# Altium schematic symbol library SMPSProject.SchLib: 155 symbols (part 1 of 2)
Pins are listed as number, name and electrical type; pins without a type are passive.

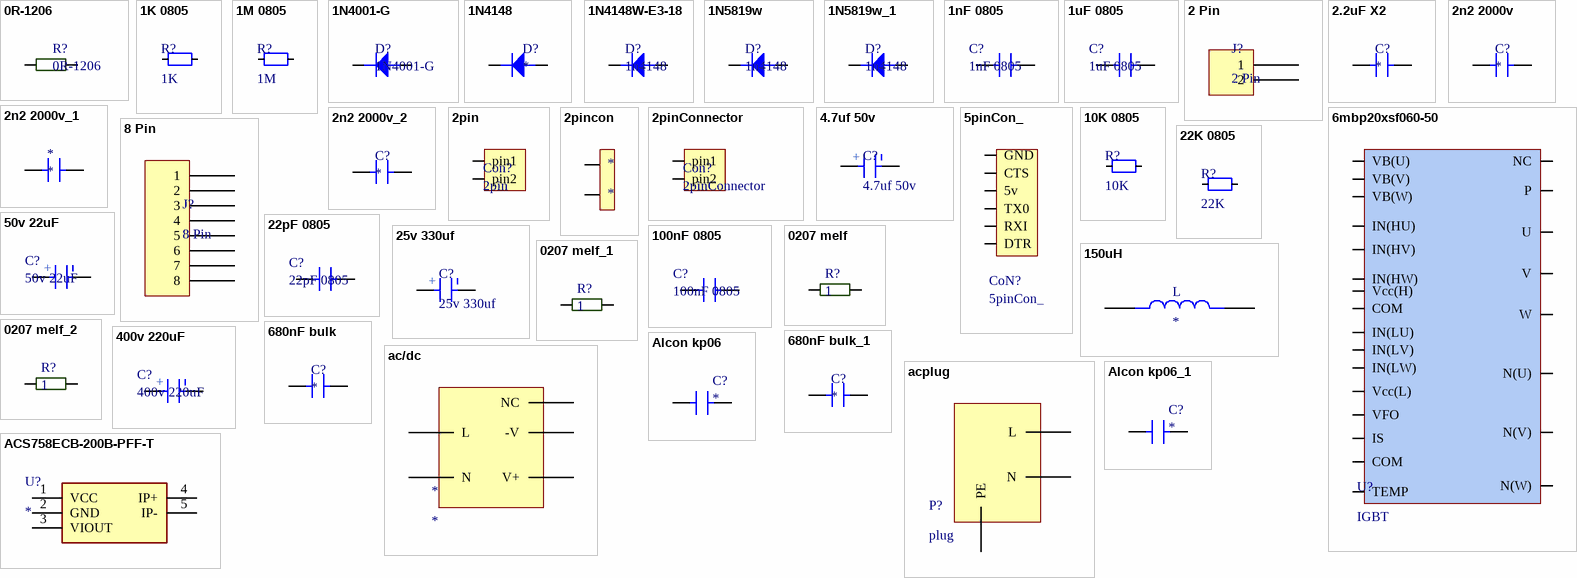
[diagram p0: symbols 0R-1206 to Alcon kp06_1]

## 0R-1206
designator R?
Res1206
footprint R-1206
pins: 1, 2

## 1K 0805
designator R?, comment 1K
footprint R-0805R (resistor 0805 reflow soldering)
pins: 1, 2

## 1M 0805
designator R?, comment 1M
footprint R-0805R (resistor 0805 reflow soldering)
pins: 1, 2

## 1N4001-G
designator D?
DIODE GEN PURP 50V 1A DO41; Manufacturer: Comchip; Supplier 1: Digi-Key; Manufacturer Part Number: 1N4001-G; RoHS: Yes; Stock 1: 80000; Pricing 1: 5000 = 0,01691, 10000 = 0,01470, 25000 = 0,01323, 50000 = 0,01176, 125000 = 0,00978 (USD); Mount: Through Hole; Package Quantity: 5000; Packaging: Tape and Reel; Average Rectified Current: 1A; Max Reverse Voltage (DC): 50V; ComponentLink1URL: http://www.comchiptech.com/admin/files/product/1N4001-G%20Thru.%201N4007-G%20RevB.pdf?src-supplier=Digi-Key; ComponentLink1Description: http://www.comchiptech.com/admin/files/product/1N4001-G%20Thru.%201N4007-G%20RevB.pdf?src-supplier=Digi-Key; Supplier Part Number 1: 641-1310-3-ND
footprint DO41 1N4001 MUR220
pins: A, K

## 1N4148
designator D?
DIODE FAST SWITCHING Single 150mA 75V SMT SOD323
footprint SOD123
pins: a, k

## 1N4148W-E3-18
designator D?, comment 1n4148
Diode Small Signal Switching 100V 0.15A 2-Pin SOD-123 T/R; Manufacturer: Vishay; Manufacturer Part Number: 1N4148W-E3-18; Recovery Time: 4ns; Max Power Dissipation: 350mW; Forward Current: 150mA; Max Surge Current: 2A; Forward Voltage: 1.2V; Max Reverse Leakage Current: 5uA; Element Configuration: Single; Max Reverse Voltage (DC): 75V; Peak Reverse Current: 100uA; Supplier 1: Allied Electronics; RoHS: Yes; Stock 1: 6838; Pricing 1: 1 = 0.03900, 25 = 0.03800, 100 = 0.03600, 250 = 0.03400, 500 = 0.03200, 1000 = 0.03100, 2500 = 0.02900 (USD); Mount: Surface Mount; Number of Pins: 2; Weight: 0.000363oz; Contact Plating: Tin; Min Operating Temperature: -55°C; Max Operating Temperature: 150°C; Packaging: Tape and Reel; Package Quantity: 10000; Average Rectified Current: 150mA; Reverse Recovery Time: 4ns; Power Dissipation: 350mW; Max Repetitive Reverse Voltage (Vrrm): 100V; Peak Non-Repetitive Surge Current: 2A; Length: 2.85mm; Height: 1.25mm; Width: 1.7mm; Radiation Hardening: No; Lead Free: Lead Free; ComponentLink1URL: https://datasheet.ciiva.com/29885/1n4148w-29885941.pdf?src-supplier=Avnet; ComponentLink1Description: https://datasheet.ciiva.com/29885/1n4148w-29885941.pdf?src-supplier=Avnet; ComponentLink2URL: https://datasheet.ciiva.com/29593/1n4148w-29593113.pdf?src-supplier=Digi-Key; ComponentLink2Description: https://datasheet.ciiva.com/29593/1n4148w-29593113.pdf?src-supplier=Digi-Key; ComponentLink3URL: https://datasheet.ciiva.com/29593/1n4148w-29593111.pdf?src-supplier=Digi-Key; ComponentLink3Description: https://datasheet.ciiva.com/29593/1n4148w-29593111.pdf?src-supplier=Digi-Key; ComponentLink4URL: https://datasheet.ciiva.com/29593/1n4148w-29593112.pdf?src-supplier=Digi-Key; ComponentLink4Description: https://datasheet.ciiva.com/29593/1n4148w-29593112.pdf?src-supplier=Digi-Key; Supplier Part Number 1: 70061597
footprint SOD123
pins: a, k

## 1N5819w
designator D?, comment 1n4148
Diode Small Signal Switching 100V 0.15A 2-Pin SOD-123 T/R; Manufacturer: Vishay; Manufacturer Part Number: 1N4148W-E3-18; Recovery Time: 4ns; Max Power Dissipation: 350mW; Forward Current: 150mA; Max Surge Current: 2A; Forward Voltage: 1.2V; Max Reverse Leakage Current: 5uA; Element Configuration: Single; Max Reverse Voltage (DC): 75V; Peak Reverse Current: 100uA; Supplier 1: Allied Electronics; RoHS: Yes; Stock 1: 6838; Pricing 1: 1 = 0.03900, 25 = 0.03800, 100 = 0.03600, 250 = 0.03400, 500 = 0.03200, 1000 = 0.03100, 2500 = 0.02900 (USD); Mount: Surface Mount; Number of Pins: 2; Weight: 0.000363oz; Contact Plating: Tin; Min Operating Temperature: -55°C; Max Operating Temperature: 150°C; Packaging: Tape and Reel; Package Quantity: 10000; Average Rectified Current: 150mA; Reverse Recovery Time: 4ns; Power Dissipation: 350mW; Max Repetitive Reverse Voltage (Vrrm): 100V; Peak Non-Repetitive Surge Current: 2A; Length: 2.85mm; Height: 1.25mm; Width: 1.7mm; Radiation Hardening: No; Lead Free: Lead Free; ComponentLink1URL: https://datasheet.ciiva.com/29885/1n4148w-29885941.pdf?src-supplier=Avnet; ComponentLink1Description: https://datasheet.ciiva.com/29885/1n4148w-29885941.pdf?src-supplier=Avnet; ComponentLink2URL: https://datasheet.ciiva.com/29593/1n4148w-29593113.pdf?src-supplier=Digi-Key; ComponentLink2Description: https://datasheet.ciiva.com/29593/1n4148w-29593113.pdf?src-supplier=Digi-Key; ComponentLink3URL: https://datasheet.ciiva.com/29593/1n4148w-29593111.pdf?src-supplier=Digi-Key; ComponentLink3Description: https://datasheet.ciiva.com/29593/1n4148w-29593111.pdf?src-supplier=Digi-Key; ComponentLink4URL: https://datasheet.ciiva.com/29593/1n4148w-29593112.pdf?src-supplier=Digi-Key; ComponentLink4Description: https://datasheet.ciiva.com/29593/1n4148w-29593112.pdf?src-supplier=Digi-Key; Supplier Part Number 1: 70061597
footprint SOD123
pins: a, k

## 1N5819w_1
designator D?, comment 1n4148
Diode Small Signal Switching 100V 0.15A 2-Pin SOD-123 T/R; Manufacturer: Vishay; Manufacturer Part Number: 1N4148W-E3-18; Recovery Time: 4ns; Max Power Dissipation: 350mW; Forward Current: 150mA; Max Surge Current: 2A; Forward Voltage: 1.2V; Max Reverse Leakage Current: 5uA; Element Configuration: Single; Max Reverse Voltage (DC): 75V; Peak Reverse Current: 100uA; Supplier 1: Allied Electronics; RoHS: Yes; Stock 1: 6838; Pricing 1: 1 = 0.03900, 25 = 0.03800, 100 = 0.03600, 250 = 0.03400, 500 = 0.03200, 1000 = 0.03100, 2500 = 0.02900 (USD); Mount: Surface Mount; Number of Pins: 2; Weight: 0.000363oz; Contact Plating: Tin; Min Operating Temperature: -55°C; Max Operating Temperature: 150°C; Packaging: Tape and Reel; Package Quantity: 10000; Average Rectified Current: 150mA; Reverse Recovery Time: 4ns; Power Dissipation: 350mW; Max Repetitive Reverse Voltage (Vrrm): 100V; Peak Non-Repetitive Surge Current: 2A; Length: 2.85mm; Height: 1.25mm; Width: 1.7mm; Radiation Hardening: No; Lead Free: Lead Free; ComponentLink1URL: https://datasheet.ciiva.com/29885/1n4148w-29885941.pdf?src-supplier=Avnet; ComponentLink1Description: https://datasheet.ciiva.com/29885/1n4148w-29885941.pdf?src-supplier=Avnet; ComponentLink2URL: https://datasheet.ciiva.com/29593/1n4148w-29593113.pdf?src-supplier=Digi-Key; ComponentLink2Description: https://datasheet.ciiva.com/29593/1n4148w-29593113.pdf?src-supplier=Digi-Key; ComponentLink3URL: https://datasheet.ciiva.com/29593/1n4148w-29593111.pdf?src-supplier=Digi-Key; ComponentLink3Description: https://datasheet.ciiva.com/29593/1n4148w-29593111.pdf?src-supplier=Digi-Key; ComponentLink4URL: https://datasheet.ciiva.com/29593/1n4148w-29593112.pdf?src-supplier=Digi-Key; ComponentLink4Description: https://datasheet.ciiva.com/29593/1n4148w-29593112.pdf?src-supplier=Digi-Key; Supplier Part Number 1: 70061597
footprint SOD123
pins: a, k

## 1nF 0805
designator C?
Manufacturer: Nichicon; Manufacturer Part Number: LKS1J472MESZ; Voltage Rating: 63V; Tolerance: 20%; Ripple Current: 3A; Life (Hours): 1000Hour; Supplier 1: Mouser; RoHS: Yes; Mount: Through Hole; Case/Package: Radial; Min Operating Temperature: -40°C; Max Operating Temperature: 85°C; Package Quantity: 250; Packaging: Bulk; Voltage Rating (DC): 63V; Termination: Snap in; Diameter: 22mm; Length: 45mm; Lead Pitch: 0.394inch; Height - Seated (Max): 1.772inch; Supplier Part Number 1: 647-LKS1J472MESZ; ComponentLink1Description: Link; ComponentLink1URL: https://ozdisan.com/passive-components/capacitors/smt-smd-and-mlcc-capacitors/CL21B102KBANNNC
footprint C-0805R (capacitor 0805 reflow soldering)
pins: 1, 2

## 1uF 0805
designator C?
Manufacturer: Nichicon; Manufacturer Part Number: LKS1J472MESZ; Voltage Rating: 63V; Tolerance: 20%; Ripple Current: 3A; Life (Hours): 1000Hour; Supplier 1: Mouser; RoHS: Yes; Mount: Through Hole; Case/Package: Radial; Min Operating Temperature: -40°C; Max Operating Temperature: 85°C; Package Quantity: 250; Packaging: Bulk; Voltage Rating (DC): 63V; Termination: Snap in; Diameter: 22mm; Length: 45mm; Lead Pitch: 0.394inch; Height - Seated (Max): 1.772inch; Supplier Part Number 1: 647-LKS1J472MESZ
footprint C-0805R (capacitor 0805 reflow soldering)
pins: 1, 2

## 2 Pin
designator J?
footprint 2pin
pins: 1, 2

## 2.2uF X2
designator C?
footprint CAP.POL 2.2UF  x2
pins: 1, 2

## 2n2 2000v
designator C?
footprint 2n2 2000v
pins: 1, 2

## 2n2 2000v_1
designator *
footprint 2n2 2000v
pins: 1, 2

## 2n2 2000v_2
designator C?
footprint 2n2 2000v
pins: 1, 2

## 2pin
designator Con?
footprint Contactor
pins: 1 pin1, 2 pin2

## 2pincon
designator *
footprint 2pinCon
pins: 1, 2

## 2pinConnector
designator Con?
footprint 2pinCon
pins: 1 pin1, 2 pin2

## 4.7uf 50v
designator C?
footprint 4x5.3 cap
pins: 1, 2
text: +

## 5pinCon_
designator CoN?
footprint 5pinCon
pins: 1 DTR, 2 RXI, 3 TX0, 4 5v, 5 CTS, 6 GND

## 6mbp20xsf060-50
designator U?, comment IGBT
footprint 6MBP20XSF06050P
pins: 3 VB(U), 5 VB(V), 7 VB(W), 9 IN(HU), 10 IN(HV), 11 IN(HW), 12 Vcc(H), 13 COM, 14 IN(LU), 15 IN(LV), 16 IN(LW), 17 Vcc(L), 18 VFO, 19 IS, 20 COM, 21 TEMP, 22 N(W), 23 N(V), 24 N(U), 26 W, 28 V, 30 U, 32 P, 36 NC

## 8 Pin
designator J?
footprint 8 pin connector
pins: 1, 2, 3, 4, 5, 6, 7, 8

## 10K 0805
designator R?, comment 10K
footprint R-0805R (resistor 0805 reflow soldering)
pins: 1, 2

## 22K 0805
designator R?, comment 22K
footprint R-0805R (resistor 0805 reflow soldering)
pins: 1, 2

## 22pF 0805
designator C?
Manufacturer: Nichicon; Manufacturer Part Number: LKS1J472MESZ; Voltage Rating: 63V; Tolerance: 20%; Ripple Current: 3A; Life (Hours): 1000Hour; Supplier 1: Mouser; RoHS: Yes; Mount: Through Hole; Case/Package: Radial; Min Operating Temperature: -40°C; Max Operating Temperature: 85°C; Package Quantity: 250; Packaging: Bulk; Voltage Rating (DC): 63V; Termination: Snap in; Diameter: 22mm; Length: 45mm; Lead Pitch: 0.394inch; Height - Seated (Max): 1.772inch; Supplier Part Number 1: 647-LKS1J472MESZ; ComponentLink1Description: Link; ComponentLink1URL: https://ozdisan.com/passive-components/capacitors/smt-smd-and-mlcc-capacitors/CL21C220JCANNNC
footprint C-0805R (capacitor 0805 reflow soldering)
pins: 1, 2

## 25v 330uf
designator C?
ComponentLink1Description: Link; ComponentLink1URL: https://ozdisan.com/passive-components/capacitors/aluminum-capacitors/BXJ25VC330MJ10TP
footprint 10*10 capacitor
pins: 1, 2
text: +

## 50v 22uF
designator C?
Manufacturer: Nichicon; Manufacturer Part Number: LKS1J472MESZ; Capacitance: 4.7mF; Voltage Rating: 63V; Tolerance: 20%; Ripple Current: 3A; Life (Hours): 1000Hour; Supplier 1: Mouser; RoHS: Yes; Mount: Through Hole; Case/Package: Radial; Min Operating Temperature: -40°C; Max Operating Temperature: 85°C; Package Quantity: 250; Packaging: Bulk; Voltage Rating (DC): 63V; Termination: Snap in; Diameter: 22mm; Length: 45mm; Lead Pitch: 0.394inch; Height - Seated (Max): 1.772inch; Supplier Part Number 1: 647-LKS1J472MESZ; ComponentLink3Description: Link; ComponentLink3URL: https://ozdisan.com/passive-components/capacitors/aluminum-capacitors/MRW-050V220ME057-TR
footprint 50v 22uf (Aluminum Electrolytic Capacitor, Body 6.70x6.70x6.30mm, IPC Low Density)
pins: 1, 2
text: +

## 100nF 0805
designator C?
Manufacturer: Nichicon; Manufacturer Part Number: LKS1J472MESZ; Voltage Rating: 63V; Tolerance: 20%; Ripple Current: 3A; Life (Hours): 1000Hour; Supplier 1: Mouser; RoHS: Yes; Mount: Through Hole; Case/Package: Radial; Min Operating Temperature: -40°C; Max Operating Temperature: 85°C; Package Quantity: 250; Packaging: Bulk; Voltage Rating (DC): 63V; Termination: Snap in; Diameter: 22mm; Length: 45mm; Lead Pitch: 0.394inch; Height - Seated (Max): 1.772inch; Supplier Part Number 1: 647-LKS1J472MESZ; ComponentLink2Description: Link; ComponentLink2URL: https://ozdisan.com/Product/Detail/342152/CL21F104ZBANNNC
footprint C-0805R (capacitor 0805 reflow soldering)
pins: 1, 2

## 150uH
designator L
Inductor with Inductance: 150uH Tol. +/-20%, Package: 2929 _7373_; MF: Murata; MP: B1047AS-151M=P3; Value: *; SnapEDA_Link: https://www.snapeda.com/parts/B1047AS-151M%3DP3/Murata/view-part/4548598/?ref=snap; Availability: Unavailable; Package: NONSTANDARD; Price: None
footprint IND_B1047AS-151M=P3
pins: 1, 2

## 0207 melf
designator R?, comment 1
ComponentLink1Description: https://www.ozdisan.com/pasif-komponentler/direncler/smt-smd-direncler/M271UFG100KT20; ComponentLink1URL: https://www.ozdisan.com/pasif-komponentler/direncler/smt-smd-direncler/M271UFG100KT20
footprint R-2512W (resistor 2512 wave soldering)
pins: 1, 2

## 0207 melf_1
designator R?, comment 1
ComponentLink1Description: https://www.ozdisan.com/pasif-komponentler/direncler/smt-smd-direncler/M271UFG100KT20; ComponentLink1URL: https://www.ozdisan.com/pasif-komponentler/direncler/smt-smd-direncler/M271UFG100KT20
footprint R-2512
pins: 1, 2

## 0207 melf_2
designator R?, comment 1
ComponentLink1Description: https://www.ozdisan.com/pasif-komponentler/direncler/smt-smd-direncler/M271UFG100KT20; ComponentLink1URL: https://www.ozdisan.com/pasif-komponentler/direncler/smt-smd-direncler/M271UFG100KT20
footprint R-2512W (resistor 2512 wave soldering)
pins: 1, 2

## 400v 220uF
designator C?
Manufacturer: Nichicon; Manufacturer Part Number: LKS1J472MESZ; Capacitance: 4.7mF; Voltage Rating: 63V; Tolerance: 20%; Ripple Current: 3A; Life (Hours): 1000Hour; Supplier 1: Mouser; RoHS: Yes; Mount: Through Hole; Case/Package: Radial; Min Operating Temperature: -40°C; Max Operating Temperature: 85°C; Package Quantity: 250; Packaging: Bulk; Voltage Rating (DC): 63V; Termination: Snap in; Diameter: 22mm; Length: 45mm; Lead Pitch: 0.394inch; Height - Seated (Max): 1.772inch; Supplier Part Number 1: 647-LKS1J472MESZ; ComponentLink2Description: https://www.ozdisan.com/pasif-komponentler/kondansatorler/aluminyum-kondansatorler/PKL5-063V472MM450; ComponentLink2URL: https://www.ozdisan.com/pasif-komponentler/kondansatorler/aluminyum-kondansatorler/PKL5-063V472MM450
footprint 400 220Uf
pins: 1, 2
text: +

## 680nF bulk
designator C?
footprint 680nF bulk
pins: 1, 2

## 680nF bulk_1
designator C?
footprint 680nF bulk
pins: 1, 2

## ac/dc
designator *
footprint ac/dc
pins: 1 L, 2 N, 3 NC, 4 -V, 5 V+

## acplug
designator P?, comment plug
footprint plug
pins: 1 PE, 2 N, 3 L

## ACS758ECB-200B-PFF-T
designator U?
Undefined or Miscellaneous; Manufacturer_Name: Allegro Microsystems; Manufacturer_Part_Number: ACS758ECB-200B-PFF-T; Datasheet Link: http://www.farnell.com/datasheets/926109.pdf; Arrow Part Number: ACS758ECB-200B-PFF-T; Arrow Price/Stock: https://www.arrow.com/en/products/acs758ecb-200b-pff-t/allegro-microsystems
footprint ACS756SCA-050B-PFF-T_2
pins: 1 VCC, 2 GND, 3 VIOUT, 4 IP+, 5 IP-

## Alcon kp06
designator C?
footprint AlconKp06
pins: 1, 2

## Alcon kp06_1
designator C?
footprint AlconKp06
pins: 1, 2

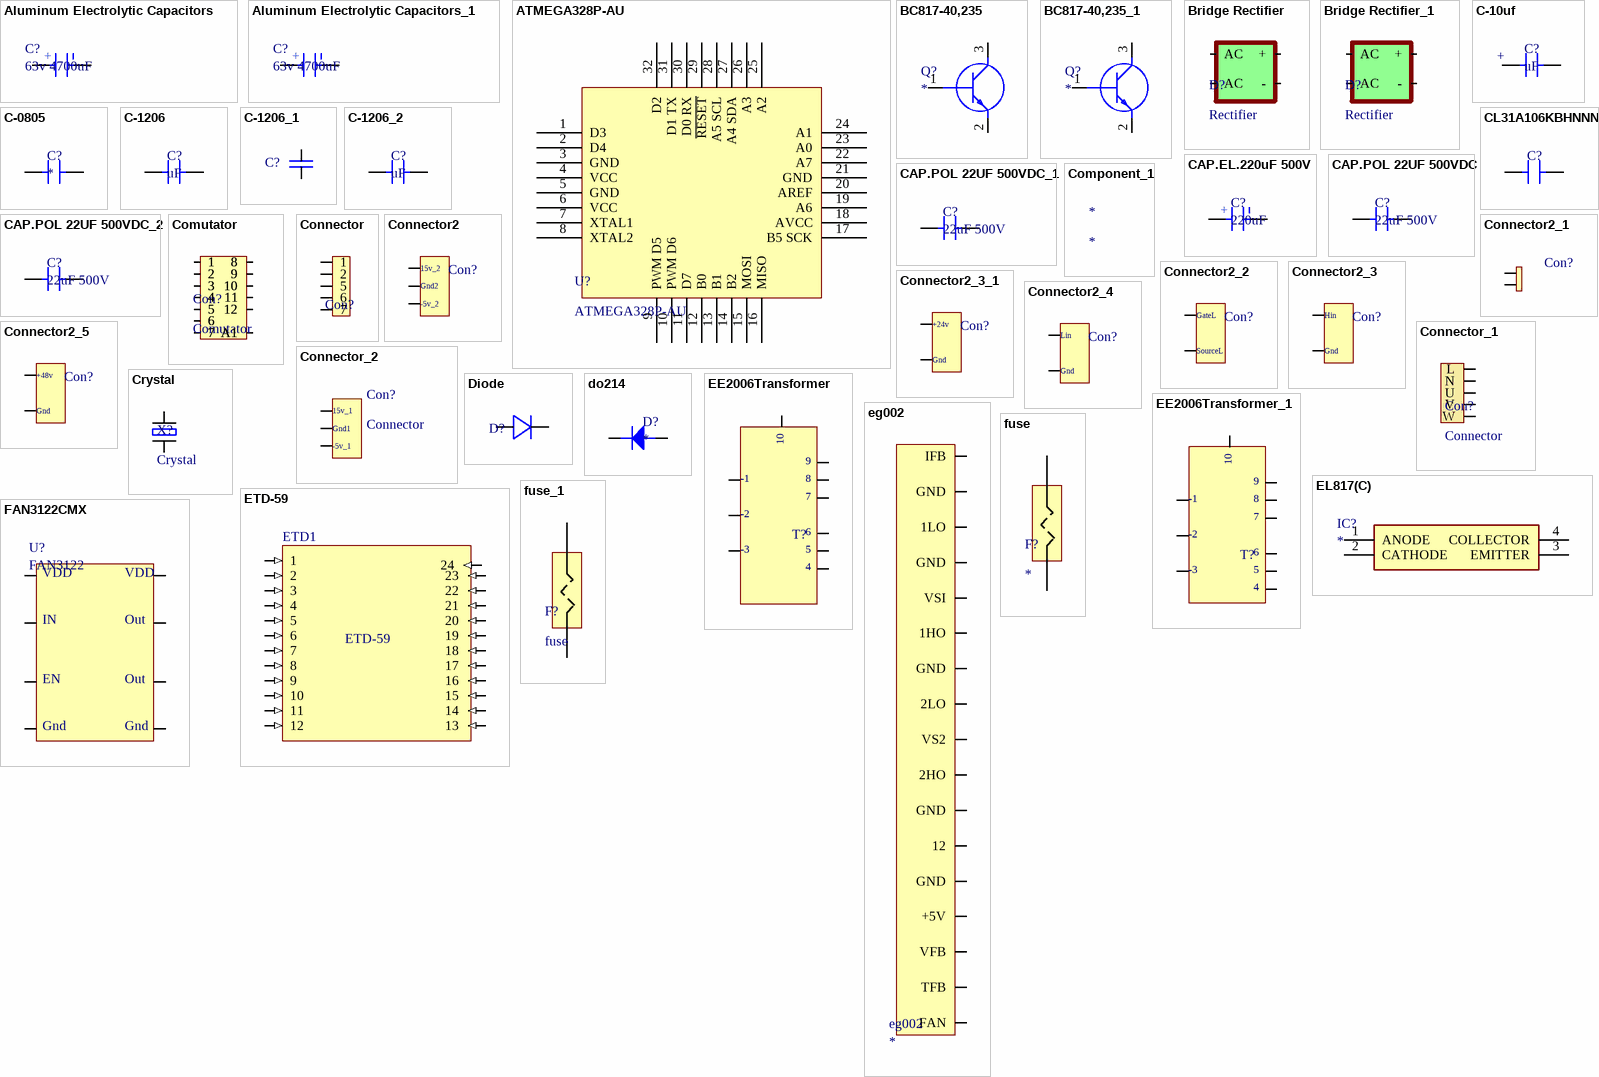
[diagram p1: symbols Aluminum Electrolytic Capacitors to fuse_1]

## Aluminum Electrolytic Capacitors
designator C?, comment 63v 4700uF
PKL5-063V472MM450 Aluminum Electrolytic Capacitors - Snap In 63volts 4700uF 20%; Manufacturer: Nichicon; Manufacturer Part Number: LKS1J472MESZ; Capacitance: 4.7mF; Ripple Current: 3A; Life (Hours): 1000Hour; Supplier 1: Mouser; RoHS: Yes; Mount: Through Hole; Case/Package: Radial; Min Operating Temperature: -40°C; Max Operating Temperature: 85°C; Package Quantity: 250; Voltage Rating: 63V; Tolerance: 20%; Packaging: Bulk; Voltage Rating (DC): 63V; Termination: Snap in; Diameter: 22mm; Length: 45mm; Lead Pitch: 0.394inch; Height - Seated (Max): 1.772inch; Supplier Part Number 1: 647-LKS1J472MESZ; ComponentLink2Description: https://www.ozdisan.com/pasif-komponentler/kondansatorler/aluminyum-kondansatorler/PKL5-063V472MM450; ComponentLink2URL: https://www.ozdisan.com/pasif-komponentler/kondansatorler/aluminyum-kondansatorler/PKL5-063V472MM450
footprint Koshin 63v 4700 cap
pins: 1, 2
text: +

## Aluminum Electrolytic Capacitors_1
designator C?, comment 63v 4700uF
PKL5-063V472MM450 Aluminum Electrolytic Capacitors - Snap In 63volts 4700uF 20%; Manufacturer: Nichicon; Manufacturer Part Number: LKS1J472MESZ; Capacitance: 4.7mF; Ripple Current: 3A; Life (Hours): 1000Hour; Supplier 1: Mouser; RoHS: Yes; Mount: Through Hole; Case/Package: Radial; Min Operating Temperature: -40°C; Max Operating Temperature: 85°C; Package Quantity: 250; Voltage Rating: 63V; Tolerance: 20%; Packaging: Bulk; Voltage Rating (DC): 63V; Termination: Snap in; Diameter: 22mm; Length: 45mm; Lead Pitch: 0.394inch; Height - Seated (Max): 1.772inch; Supplier Part Number 1: 647-LKS1J472MESZ; ComponentLink2Description: https://www.ozdisan.com/pasif-komponentler/kondansatorler/aluminyum-kondansatorler/PKL5-063V472MM450; ComponentLink2URL: https://www.ozdisan.com/pasif-komponentler/kondansatorler/aluminyum-kondansatorler/PKL5-063V472MM450
footprint Koshin 63v 4700 cap
pins: 1, 2
text: +

## ATMEGA328P-AU
designator U?
Microchip Technology ATMEGA328P-AN, 8bit AVR Microcontroller, 20MHz, 32 kB Flash, 32-Pin TQFP
footprint TQFP80P900X900X120-32N (TQFP, 32-Leads, Body 7.00x7.00mm, Pitch 0.80mm, IPC Medium Density)
pins: 1 D3, 2 D4, 3 GND, 4 VCC, 5 GND, 6 VCC, 7 XTAL1, 8 XTAL2, 9 PWM D5, 10 PWM D6, 11 D7, 12 B0, 13 B1, 14 B2, 15 MOSI, 16 MISO, 17 B5 SCK, 18 AVCC, 19 A6, 20 AREF, 21 GND, 22 A7, 23 A0, 24 A1, 25 A2, 26 A3, 27 A4 SDA, 28 A5 SCL, 29 ~{RESET}, 30 D0 RX, 31 D1 TX, 32 D2

## BC817-40,235
designator Q?
Transistor BJT NPN; Manufacturer_Name: Nexperia; Manufacturer_Part_Number: BC817-40,235; Datasheet Link: http://assets.nexperia.com/documents/data-sheet/BC817_BC817W_BC337.pdf; Height: 1.1mm; Mouser Part Number: 771-BC817-40235; Mouser Price/Stock: https://www.mouser.com/Search/Refine.aspx?Keyword=771-BC817-40235; RS Part Number: 1707957; RS Price/Stock: http://uk.rs-online.com/web/p/products/1707957
footprint SOT95P230X110-3N
pins: 1 B, 2 E, 3 C

## BC817-40,235_1
designator Q?
Transistor BJT NPN; Manufacturer_Name: Nexperia; Manufacturer_Part_Number: BC817-40,235; Datasheet Link: http://assets.nexperia.com/documents/data-sheet/BC817_BC817W_BC337.pdf; Height: 1.1mm; Mouser Part Number: 771-BC817-40235; Mouser Price/Stock: https://www.mouser.com/Search/Refine.aspx?Keyword=771-BC817-40235; RS Part Number: 1707957; RS Price/Stock: http://uk.rs-online.com/web/p/products/1707957
footprint SOT95P230X110-3N
pins: 1 B, 2 E, 3 C

## Bridge Rectifier
designator D?, comment Rectifier
footprint Bridge Rectifier
pins: 1 AC, 2 +, 3 -, 4 AC

## Bridge Rectifier_1
designator D?, comment Rectifier
ComponentLink1Description: Link; ComponentLink1URL: https://ozdisan.com/power-semiconductors/diodes-diode-modules-and-rectifiers/bridge-diodes/DF10S-HT
footprint bridge
pins: 1 +, 2 -, 3 AC, 4 AC

## C-10uf
designator C?, comment uF
footprint CapSmdElc (Aluminum Electrolytic Capacitor, Body 6.70x6.70x6.30mm, IPC Low Density)
pins: 1, 2
text: +

## C-0805
designator C?
footprint C-0805
footprint C-0805
pins: 1, 2

## C-1206
designator C?, comment uF
footprint C-1206
pins: 1, 2

## C-1206_1
designator C?  (value not drawn)
footprint C-1206W (capacitor 1206 wave soldering)
pins: 1, 2

## C-1206_2
designator C?, comment uF
footprint C-1206
pins: 1, 2

## CAP.EL.220uF 500V
designator C?, comment 220uF
ComponentLink1Description: https://www.ozdisan.com/pasif-komponentler/kondansatorler/aluminyum-kondansatorler/K055002210PM0E040; ComponentLink1URL: https://www.ozdisan.com/pasif-komponentler/kondansatorler/aluminyum-kondansatorler/K055002210PM0E040
footprint Koshin
pins: 1, 2
text: +

## CAP.POL 22UF 500VDC
designator C?, comment 22uF 500V
ComponentLink1Description: https://www.ozdisan.com/pasif-komponentler/kondansatorler/film-kondansatorler/C3D2H226JB00C00; ComponentLink1URL: https://www.ozdisan.com/pasif-komponentler/kondansatorler/film-kondansatorler/C3D2H226JB00C00
footprint CAP.POL 22UF 500VDC - duplicate
pins: 1, 2

## CAP.POL 22UF 500VDC_1
designator C?, comment 22uF 500V
ComponentLink1Description: https://www.ozdisan.com/pasif-komponentler/kondansatorler/film-kondansatorler/C3D2H226JB00C00; ComponentLink1URL: https://www.ozdisan.com/pasif-komponentler/kondansatorler/film-kondansatorler/C3D2H226JB00C00
footprint CAP.POL 22UF 500VDC - duplicate
pins: 1, 2

## CAP.POL 22UF 500VDC_2
designator C?, comment 22uF 500V
ComponentLink1Description: https://www.ozdisan.com/pasif-komponentler/kondansatorler/film-kondansatorler/C3D2H226JB00C00; ComponentLink1URL: https://www.ozdisan.com/pasif-komponentler/kondansatorler/film-kondansatorler/C3D2H226JB00C00
footprint CAP.POL 22UF 500VDC - duplicate
pins: 1, 2

## CL31A106KBHNNNE
designator C?  (value not drawn)
Cap Ceramic 10uF 50V X5R 10% SMD 1206 85C T/R; Manufacturer: Samsung; Supplier 1: Digi-Key; Manufacturer Part Number: CL31A106KBHNNNE; RoHS: Yes; Stock 1: 482000; Pricing 1: 2000 = 0,17875, 4000 = 0,16758 (USD); Mount: Surface Mount; Case/Package: 1206; Case Code (Metric): 3216; Case Code (Imperial): 1206; Material: Ceramic; Contact Plating: Tin; Min Operating Temperature: -55°C; Max Operating Temperature: 85°C; Capacitance: 10uF; Tolerance: 10%; Package Quantity: 1; Packaging: Tape and Reel; Voltage Rating: 50V; Dielectric: X5R; Voltage Rating (DC): 50V; Length: 3.2mm; Height: 1.6mm; Width: 0.063inch; Thickness: 0.071inch; Depth: 1.6mm; Radiation Hardening: No; Lead Free: Lead Free; ComponentLink1URL: https://media.digikey.com/pdf/Data%20Sheets/Samsung%20PDFs/CL_Series_MLCC_ds.pdf?src-supplier=Digi-Key; ComponentLink1Description: https://media.digikey.com/pdf/Data%20Sheets/Samsung%20PDFs/CL_Series_MLCC_ds.pdf?src-supplier=Digi-Key; ComponentLink2URL: http://www1.futureelectronics.com/doc/SAMSUNG%20PASSIVE/CL05B104KQ5NNNC.pdf?src-supplier=Future+Electronics; ComponentLink2Description: http://www1.futureelectronics.com/doc/SAMSUNG%20PASSIVE/CL05B104KQ5NNNC.pdf?src-supplier=Future+Electronics; ComponentLink3URL: http://www.rapidonline.com/pdf/71-0881.pdf?src-supplier=Rapid+Electronics; ComponentLink3Description: http://www.rapidonline.com/pdf/71-0881.pdf?src-supplier=Rapid+Electronics; ComponentLink4URL: https://www.verical.com/server-webapp/html/getDatasheet?partID=353196&src-supplier=Verical; ComponentLink4Description: https://www.verical.com/server-webapp/html/getDatasheet?partID=353196&src-supplier=Verical; ComponentLink5URL: https://produktinfo.conrad.com/datenblaetter/450000-474999/452492-da-01-en-VS_KONDENSATOR_1206.pdf?src-supplier=Conrad; ComponentLink5Description: https://produktinfo.conrad.com/datenblaetter/450000-474999/452492-da-01-en-VS_KONDENSATOR_1206.pdf?src-supplier=Conrad; Supplier Part Number 1: 1276-2876-2-ND
footprint Cap1206
pins: 1, 2

## Component_1
designator *

## Comutator
designator Con?
footprint comutator
pins: 1, 1, 2, 2, 3, 3, 4, 4, 5, 5, 6, 6, 7, 7, 8, 8, 9, 9, 10, 10, 11, 11, 12, 12, A1, A1

## Connector
designator Con?  (value not drawn)
footprint Connector
pins: 1, 2, 5, 6, 7

## Connector2
designator Con?  (value not drawn)
footprint Output Connector
pins: 1, 2, 3
text: 15v_2; Gnd2; -5v_2

## Connector2_1
designator Con?  (value not drawn)
System: Connector
footprint 2pinCon
pins: 1, 2

## Connector2_2
designator Con?  (value not drawn)
System: Connector
footprint Conn
pins: 1, 2
text: GateL; SourceL

## Connector2_3
designator Con?  (value not drawn)
System: Connector
footprint Conn
pins: 1, 2
text: Hin; Gnd

## Connector2_3_1
designator Con?  (value not drawn)
System: Connector
footprint Conn
pins: 1, 2
text: +24v; Gnd

## Connector2_4
designator Con?  (value not drawn)
System: Connector
footprint Conn
pins: 1, 2
text: Lin; Gnd

## Connector2_5
designator Con?  (value not drawn)
System: Connector
footprint Conn
pins: 1, 2
text: +48v; Gnd

## Connector_1
designator Con?, comment Connector
footprint Connector
pins: 1 L, 2 N, 3 U, 4 V, 5 W

## Connector_2
designator Con?, comment Connector
footprint Output Connector
pins: 1, 2, 3
text: 15v_1; Gnd1; -5v_1

## Crystal
designator X?
AS49SD-16M-FC160F3-TR
footprint crystal
pins: 1, 2

## Diode
designator D?  (value not drawn)
footprint SOD123
pins: 1, 2

## do214
designator D?
DIODE FAST SWITCHING Single 150mA 75V SMT SOD323
footprint DO-214AC
pins: a, k

## EE2006Transformer
designator T?  (value not drawn)
footprint EE1605
footprint EE2006
pins: 1, 2, 3, 4, 5, 6, 7, 8, 9, 10
text: -1; -2; -3

## EE2006Transformer_1
designator T?, comment EE2006Transformer  (value not drawn)
footprint EE2006
pins: 1, 2, 3, 4, 5, 6, 7, 8, 9, 10
text: -1; -2; -3

## eg002
designator eg002
footprint eg002
footprint eg002
pins: 1 IFB, 2 GND, 3 1LO, 4 GND, 5 VSI, 6 1HO, 7 GND, 8 2LO, 9 VS2, 10 2HO, 11 GND, 12, 13 GND, 14 +5V, 15 VFB, 16 TFB, 17 FAN

## EL817(C)
designator IC?
Integrated Circuit; Manufacturer_Name: Everlight; Manufacturer_Part_Number: EL817(C); Datasheet Link: https://componentsearchengine.com/Datasheets/1/EL817(C).pdf; Height: 4.8mm; Mouser Part Number: 638-EL817C; Mouser Price/Stock: https://www.mouser.com/Search/Refine.aspx?Keyword=638-EL817C
footprint DIP762W60P254L458H480Q4N
pins: 1 ANODE, 2 CATHODE, 3 EMITTER, 4 COLLECTOR

## ETD-59
designator ETD1
footprint ETD-59
pins: 1 (in), 2 (in), 3 (in), 4 (in), 5 (in), 6 (in), 7 (in), 8 (in), 9 (in), 10 (in), 11 (in), 12 (in), 13 (in), 14 (in), 15 (in), 16 (in), 17 (in), 18 (in), 19 (in), 20 (in), 21 (in), 22 (in), 23 (in), 24 (in)

## FAN3122CMX
designator U?, comment FAN3122
FAIRCHILD SEMICONDUCTOR         FAN3122CMX             MOSFET Driver, Low Side, 4.5V-18V Supply, 11.4A Out, 18ns Delay, SOIC-8; Manufacturer: ON Semiconductor / Fairchild; Min Supply Voltage: 4.5V; Max Supply Voltage: 18V; Rise Time: 29ns; Propagation Delay: 28ns; Number of Outputs: 1; Output Current: 9.7A; Nominal Supply Current: 580uA; Max Power Dissipation: 396mW; Fall Time: 27ns; Max Supply Current: 850uA; Operating Supply Voltage: 12V; Supplier 1: Digi-Key; Manufacturer Part Number: FAN3122CMX; RoHS: Yes; Stock 1: 11955; Pricing 1: 1 = 1.61000, 10 = 1.44700, 100 = 1.16280, 500 = 0.95532, 1000 = 0.79156 (USD); Mount: Surface Mount; Case/Package: SOIC; Number of Pins: 8; Weight: 0.2304g; Min Operating Temperature: -40°C; Max Operating Temperature: 125°C; Max Output Current: 11.4A; Packaging: Tape and Reel; Package Quantity: 1; Number of Drivers: 1; Turn-On Delay Time: 28ns; Length: 4.9mm; Height: 1.575mm; Width: 3.9mm; Radiation Hardening: No; REACH SVHC: No SVHC; Lead Free: Lead Free; ComponentLink1URL: https://datasheet.ciiva.com/15110/getdatasheetpartid-552243-15110699.pdf?src-supplier=Verical; ComponentLink1Description: https://datasheet.ciiva.com/15110/getdatasheetpartid-552243-15110699.pdf?src-supplier=Verical; ComponentLink2URL: https://datasheet.ciiva.com/1499/1880992-1499158.pdf?src-supplier=Element14; ComponentLink2Description: https://datasheet.ciiva.com/1499/1880992-1499158.pdf?src-supplier=Element14; ComponentLink3URL: https://datasheet.ciiva.com/1949/fan3121c-1949736.pdf?src-supplier=Digi-Key; ComponentLink3Description: https://datasheet.ciiva.com/1949/fan3121c-1949736.pdf?src-supplier=Digi-Key; ComponentLink4URL: https://datasheet.ciiva.com/1949/fan3121c-1949737.pdf?src-supplier=Digi-Key; ComponentLink4Description: https://datasheet.ciiva.com/1949/fan3121c-1949737.pdf?src-supplier=Digi-Key; ComponentLink5URL: https://datasheet.ciiva.com/3226/fan3122c-3226953.pdf?src-supplier=Avnet; ComponentLink5Description: https://datasheet.ciiva.com/3226/fan3122c-3226953.pdf?src-supplier=Avnet; ComponentLink6URL: https://datasheet.ciiva.com/1949/fan3121c-1949738.pdf?src-supplier=Digi-Key; ComponentLink6Description: https://datasheet.ciiva.com/1949/fan3121c-1949738.pdf?src-supplier=Digi-Key; ComponentLink7URL: https://datasheet.ciiva.com/48696/001252336-da-01-en-ic-gate-dvr-sgl-9a-fan3122cmx-soic-8-fsc-48696086.pdf?src-supplier=Conrad; ComponentLink7Description: https://datasheet.ciiva.com/48696/001252336-da-01-en-ic-gate-dvr-sgl-9a-fan3122cmx-soic-8-fsc-48696086.pdf?src-supplier=Conrad; Supplier Part Number 1: FAN3122CMXCT-ND
footprint FAN3122 Soic8 (SOIC, 8-Leads, Body 4.95x3.95mm, Pitch 1.27mm, Thermal Pad 4.10x3.10mm, IPC Medium Density)
pins: 1, 2, 3, 4, 5, 6, 7, 8
text: VDD; IN; Out; EN; Gnd

## fuse
designator F?
footprint fuse holder
pins: 1, 2

## fuse_1
designator F?, comment fuse
footprint fuse holder
pins: 1, 2

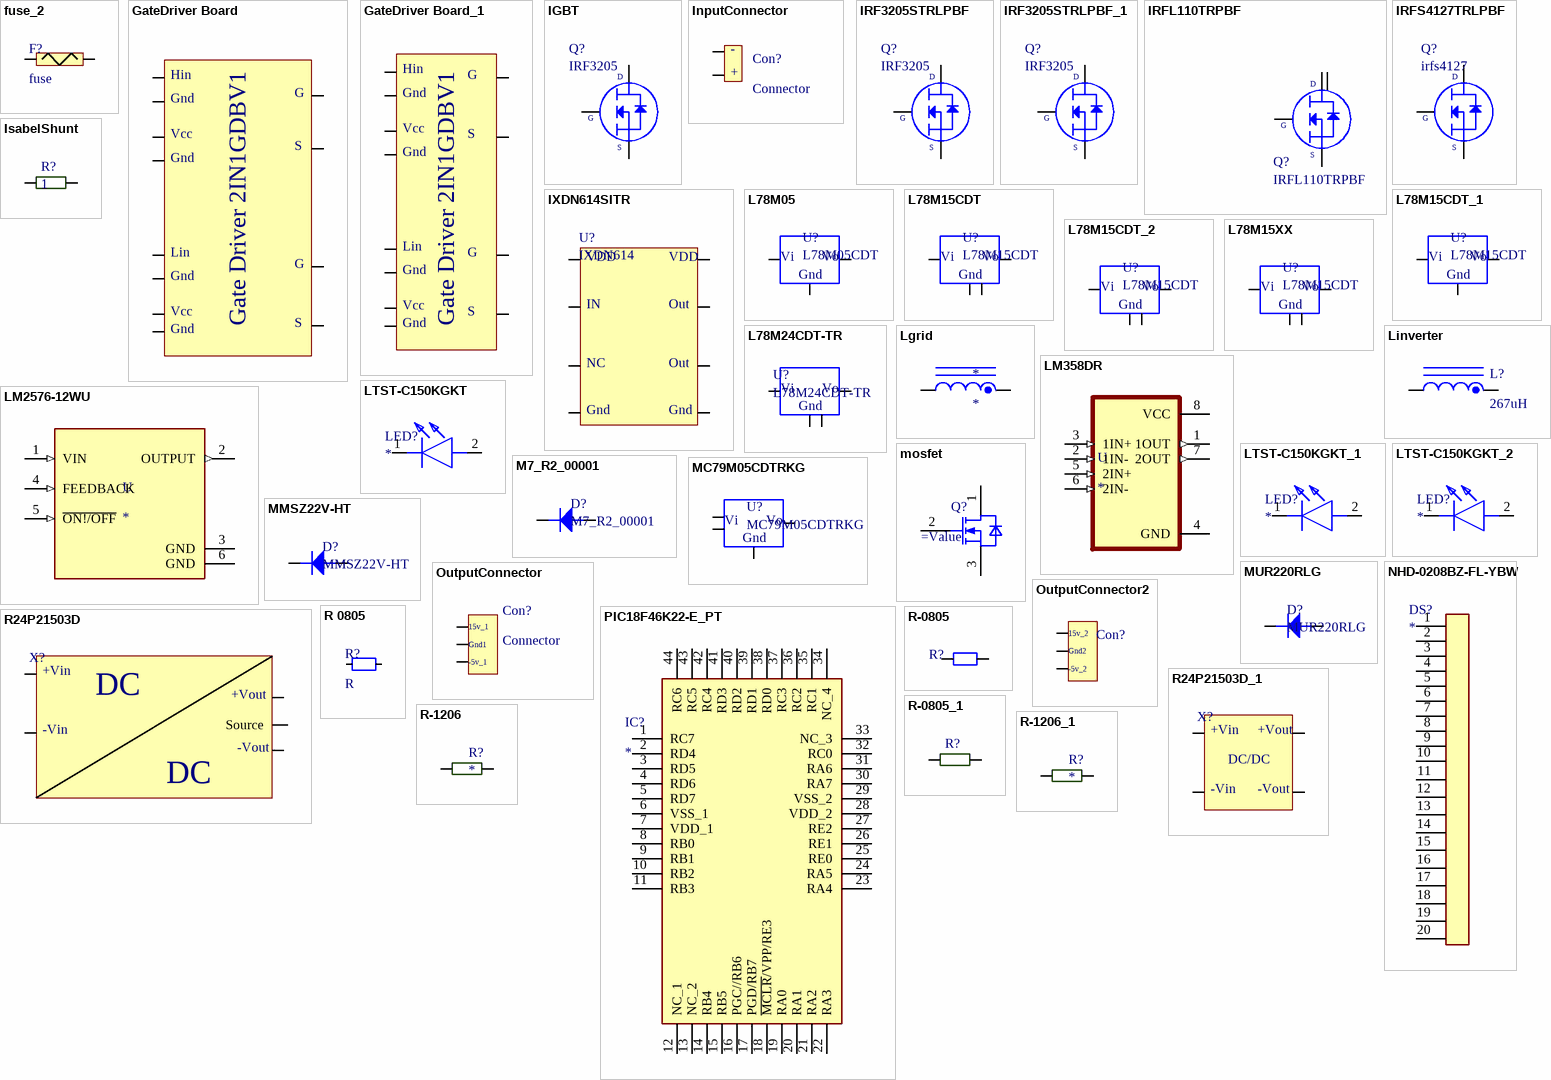
[diagram p2: symbols fuse_2 to R-1206_1]

## fuse_2
designator F?, comment fuse
footprint Fuse
pins: 1, 2

## GateDriver Board
designator G?  (value not drawn)
footprint Gate Driver
pins: 1, 2, 3, 4, 5, 6, 7, 8, 9, 10, 11, 12
text: Hin; G; Gnd; Vcc; S; Lin; Gate Driver 2IN1GDBV1

## GateDriver Board_1
designator G?  (value not drawn)
footprint Gate Driver
pins: 1, 2, 3, 4, 5, 6, 7, 8, 9, 10, 11, 12
text: Hin; G; Gnd; Vcc; S; Lin; Gate Driver 2IN1GDBV1

## IGBT
designator Q?, comment IRF3205
MOSFET N-CH 55V 110A D2PAK; Manufacturer: Infineon; Manufacturer Part Number: IRF3205STRLPBF; Rds On Max: 8mR; Input Capacitance: 3.247nF; Max Power Dissipation: 200W; Turn-Off Delay Time: 50ns; Turn-On Delay Time: 14ns; Gate to Source Voltage (Vgs): 20V; Threshold Voltage: 4V; Supplier 1: Digi-Key; RoHS: Yes; Stock 1: 3281; Pricing 1: 1 = 1,84000, 10 = 1,66600, 100 = 1,33840 (USD); Mount: Surface Mount; Case/Package: D2PAK; Number of Pins: 3; Min Operating Temperature: -55°C; Max Operating Temperature: 175°C; Packaging: Cut Tape; Drain to Source Voltage (Vdss): 55V; Continuous Drain Current (ID): 110A; Power Dissipation: 200W; Drain to Source Resistance: 8mR; Drain to Source Breakdown Voltage: 55V; Length: 0.42inch; Height: 0.19inch; Width: 0.38inch; REACH SVHC: No SVHC; Lead Free: Lead Free; ComponentLink1URL: https://www.alliedelec.com/m/d/b8827ca43655240244f0cc5c2198e6b1.pdf?src-supplier=Allied+Electronics; ComponentLink1Description: https://www.alliedelec.com/m/d/b8827ca43655240244f0cc5c2198e6b1.pdf?src-supplier=Allied+Electronics; ComponentLink2URL: https://www.infineon.com/dgdl/irf3205spbf.pdf?fileId=5546d462533600a4015355defac9190c&src-supplier=Digi-Key; ComponentLink2Description: https://www.infineon.com/dgdl/irf3205spbf.pdf?fileId=5546d462533600a4015355defac9190c&src-supplier=Digi-Key; ComponentLink3URL: http://www.infineon.com/dgdl/irf3205spbf.pdf?fileId=5546d462533600a4015355defac9190c&src-supplier=Digi-Key; ComponentLink3Description: http://www.infineon.com/dgdl/irf3205spbf.pdf?fileId=5546d462533600a4015355defac9190c&src-supplier=Digi-Key; ComponentLink4URL: http://www.farnell.com/datasheets/1884183.pdf?src-supplier=Element14; ComponentLink4Description: http://www.farnell.com/datasheets/1884183.pdf?src-supplier=Element14; Supplier Part Number 1: IRF3205STRLPBFCT-ND
footprint DPAK_TO263 (D2-PAK, 3-Pads, Body 7.93x8.70mm (max), IPC Medium Density)
pins: 1, 2, 3
text: D; G; S

## InputConnector
designator Con?, comment Connector
footprint Input connector
pins: 1, 2
text: -; +

## IRF3205STRLPBF
designator Q?, comment IRF3205
MOSFET N-CH 55V 110A D2PAK; Manufacturer: Infineon; Manufacturer Part Number: IRF3205STRLPBF; Rds On Max: 8mR; Input Capacitance: 3.247nF; Max Power Dissipation: 200W; Turn-Off Delay Time: 50ns; Turn-On Delay Time: 14ns; Gate to Source Voltage (Vgs): 20V; Threshold Voltage: 4V; Supplier 1: Digi-Key; RoHS: Yes; Stock 1: 3281; Pricing 1: 1 = 1,84000, 10 = 1,66600, 100 = 1,33840 (USD); Mount: Surface Mount; Case/Package: D2PAK; Number of Pins: 3; Min Operating Temperature: -55°C; Max Operating Temperature: 175°C; Packaging: Cut Tape; Drain to Source Voltage (Vdss): 55V; Continuous Drain Current (ID): 110A; Power Dissipation: 200W; Drain to Source Resistance: 8mR; Drain to Source Breakdown Voltage: 55V; Length: 0.42inch; Height: 0.19inch; Width: 0.38inch; REACH SVHC: No SVHC; Lead Free: Lead Free; ComponentLink1URL: https://www.alliedelec.com/m/d/b8827ca43655240244f0cc5c2198e6b1.pdf?src-supplier=Allied+Electronics; ComponentLink1Description: https://www.alliedelec.com/m/d/b8827ca43655240244f0cc5c2198e6b1.pdf?src-supplier=Allied+Electronics; ComponentLink2URL: https://www.infineon.com/dgdl/irf3205spbf.pdf?fileId=5546d462533600a4015355defac9190c&src-supplier=Digi-Key; ComponentLink2Description: https://www.infineon.com/dgdl/irf3205spbf.pdf?fileId=5546d462533600a4015355defac9190c&src-supplier=Digi-Key; ComponentLink3URL: http://www.infineon.com/dgdl/irf3205spbf.pdf?fileId=5546d462533600a4015355defac9190c&src-supplier=Digi-Key; ComponentLink3Description: http://www.infineon.com/dgdl/irf3205spbf.pdf?fileId=5546d462533600a4015355defac9190c&src-supplier=Digi-Key; ComponentLink4URL: http://www.farnell.com/datasheets/1884183.pdf?src-supplier=Element14; ComponentLink4Description: http://www.farnell.com/datasheets/1884183.pdf?src-supplier=Element14; Supplier Part Number 1: IRF3205STRLPBFCT-ND
footprint DPAK_TO263 (D2-PAK, 3-Pads, Body 7.93x8.70mm (max), IPC Medium Density)
footprint DPAK_TO263 (D2-PAK, 3-Pads, Body 7.93x8.70mm (max), IPC Medium Density)
pins: 1, 2, 3
text: D; G; S

## IRF3205STRLPBF_1
designator Q?, comment IRF3205
MOSFET N-CH 55V 110A D2PAK; Manufacturer: Infineon; Manufacturer Part Number: IRF3205STRLPBF; Rds On Max: 8mR; Input Capacitance: 3.247nF; Max Power Dissipation: 200W; Turn-Off Delay Time: 50ns; Turn-On Delay Time: 14ns; Gate to Source Voltage (Vgs): 20V; Threshold Voltage: 4V; Supplier 1: Digi-Key; RoHS: Yes; Stock 1: 3281; Pricing 1: 1 = 1,84000, 10 = 1,66600, 100 = 1,33840 (USD); Mount: Surface Mount; Case/Package: D2PAK; Number of Pins: 3; Min Operating Temperature: -55°C; Max Operating Temperature: 175°C; Packaging: Cut Tape; Drain to Source Voltage (Vdss): 55V; Continuous Drain Current (ID): 110A; Power Dissipation: 200W; Drain to Source Resistance: 8mR; Drain to Source Breakdown Voltage: 55V; Length: 0.42inch; Height: 0.19inch; Width: 0.38inch; REACH SVHC: No SVHC; Lead Free: Lead Free; ComponentLink1URL: https://www.alliedelec.com/m/d/b8827ca43655240244f0cc5c2198e6b1.pdf?src-supplier=Allied+Electronics; ComponentLink1Description: https://www.alliedelec.com/m/d/b8827ca43655240244f0cc5c2198e6b1.pdf?src-supplier=Allied+Electronics; ComponentLink2URL: https://www.infineon.com/dgdl/irf3205spbf.pdf?fileId=5546d462533600a4015355defac9190c&src-supplier=Digi-Key; ComponentLink2Description: https://www.infineon.com/dgdl/irf3205spbf.pdf?fileId=5546d462533600a4015355defac9190c&src-supplier=Digi-Key; ComponentLink3URL: http://www.infineon.com/dgdl/irf3205spbf.pdf?fileId=5546d462533600a4015355defac9190c&src-supplier=Digi-Key; ComponentLink3Description: http://www.infineon.com/dgdl/irf3205spbf.pdf?fileId=5546d462533600a4015355defac9190c&src-supplier=Digi-Key; ComponentLink4URL: http://www.farnell.com/datasheets/1884183.pdf?src-supplier=Element14; ComponentLink4Description: http://www.farnell.com/datasheets/1884183.pdf?src-supplier=Element14; Supplier Part Number 1: IRF3205STRLPBFCT-ND
footprint DPAK_TO263 (D2-PAK, 3-Pads, Body 7.93x8.70mm (max), IPC Medium Density)
footprint DPAK_TO263 (D2-PAK, 3-Pads, Body 7.93x8.70mm (max), IPC Medium Density)
pins: 1, 2, 3
text: D; G; S

## IRFL110TRPBF
designator Q?
Trans MOSFET N-CH 100V 1.5A 4-Pin(3+Tab) T/R; Manufacturer: Vishay; Input Capacitance: 180pF; Number of Elements: 1; Max Power Dissipation: 2W; Rds On Max: 540mR; Rise Time: 16ns; Gate to Source Voltage (Vgs): 20V; Fall Time: 9.4ns; Turn-Off Delay Time: 15ns; Turn-On Delay Time: 6.9ns; Element Configuration: Single; Current: 15A; Supplier 1: Digi-Key; Manufacturer Part Number: IRFL110TRPBF; RoHS: Yes; Stock 1: 5000; Pricing 1: 2500 = 0,29779 (USD); Mount: Surface Mount; Case/Package: SOT-223; Number of Pins: 3; Weight: 0.008826oz; Contact Plating: Matte,Tin; Min Operating Temperature: -55°C; Max Operating Temperature: 150°C; Package Quantity: 1; Packaging: Tape and Reel; Drain to Source Voltage (Vdss): 100V; Continuous Drain Current (ID): 1.5A; Drain to Source Breakdown Voltage: 100V; Drain to Source Resistance: 540mR; Power Dissipation: 2W; Number of Channels: 1; Voltage: 100V; On-State Resistance: 540mR; Length: 6.7mm; Height: 1.8mm; Width: 3.7mm; Radiation Hardening: No; REACH SVHC: Unknown; Lead Free: Lead Free; ComponentLink1URL: http://www.vishay.com/docs/91192/sihfl110.pdf?src-supplier=Avnet; ComponentLink1Description: http://www.vishay.com/docs/91192/sihfl110.pdf?src-supplier=Avnet; ComponentLink2URL: http://www.vishay.com/docs/91192/sihfl110.pdf?src-supplier=Future+Electronics; ComponentLink2Description: http://www.vishay.com/docs/91192/sihfl110.pdf?src-supplier=Future+Electronics; ComponentLink3URL: http://www.vishay.com/docs/91192/sihfl110.pdf?src-supplier=Avnet+Europe; ComponentLink3Description: http://www.vishay.com/docs/91192/sihfl110.pdf?src-supplier=Avnet+Europe; ComponentLink4URL: https://www.verical.com/server-webapp/html/getDatasheet?partID=80948&src-supplier=Verical; ComponentLink4Description: https://www.verical.com/server-webapp/html/getDatasheet?partID=80948&src-supplier=Verical; ComponentLink5URL: http://www.vishay.com/docs/91192/sihfl110.pdf?src-supplier=Digi-Key; ComponentLink5Description: http://www.vishay.com/docs/91192/sihfl110.pdf?src-supplier=Digi-Key; ComponentLink6URL: http://uk.rs-online.com/webdocs/126c/0900766b8126cec6.pdf?src-supplier=RSComponents; ComponentLink6Description: http://uk.rs-online.com/webdocs/126c/0900766b8126cec6.pdf?src-supplier=RSComponents; ComponentLink7URL: http://www.jameco.com/Jameco/Products/ProdDS/1562152.pdf?src-supplier=Jameco; ComponentLink7Description: http://www.jameco.com/Jameco/Products/ProdDS/1562152.pdf?src-supplier=Jameco; ComponentLink8URL: http://datasheet.iiic.cc/vishay_[siliconix]/IRFL110TRPBF.pdf?src-supplier=IIIC; ComponentLink8Description: http://datasheet.iiic.cc/vishay_[siliconix]/IRFL110TRPBF.pdf?src-supplier=IIIC; Supplier Part Number 1: IRFL110PBFTR-ND
footprint SOT223 (SOT223, 4-Leads, Body 6.50x7.00mm (avg), Pitch 2.30mm, IPC Medium Density)
pins: 1, 2, 3, 4
text: Text; D; G; S

## IRFS4127TRLPBF
designator Q?, comment irfs4127
MOSFET N-CH 200V 72A D2PAK; Manufacturer: International Rectifier; Manufacturer Part Number: IRFS4127TRLPBF; Rds On Max: 22mR; Input Capacitance: 5.38nF; Rise Time: 18ns; Max Power Dissipation: 375W; Fall Time: 22ns; Turn-Off Delay Time: 56ns; Turn-On Delay Time: 17ns; Element Configuration: Single; Gate to Source Voltage (Vgs): 20V; Supplier 1: Digi-Key; RoHS: Yes; Stock 1: 15054; Pricing 1: 1 = 3,97000, 10 = 3,54100, 100 = 2,90330 (USD); Mount: Surface Mount; Case/Package: D2PAK; Number of Pins: 3; Min Operating Temperature: -55°C; Max Operating Temperature: 175°C; Package Quantity: 1; Packaging: Tape and Reel; Drain to Source Voltage (Vdss): 200V; Continuous Drain Current (ID): 72A; Drain to Source Breakdown Voltage: 200V; Drain to Source Resistance: 22mR; Power Dissipation: 375W; On-State Resistance: 22MR; ComponentLink1URL: https://datasheet.ciiva.com/939/irfs4127pbf-939456.pdf?src-supplier=Digi-Key; ComponentLink1Description: https://datasheet.ciiva.com/939/irfs4127pbf-939456.pdf?src-supplier=Digi-Key; ComponentLink2URL: https://datasheet.ciiva.com/939/irfs4127pbf-939457.pdf?src-supplier=Digi-Key; ComponentLink2Description: https://datasheet.ciiva.com/939/irfs4127pbf-939457.pdf?src-supplier=Digi-Key; ComponentLink3URL: https://datasheet.ciiva.com/939/irfs4127pbf-939458.pdf?src-supplier=Digi-Key; ComponentLink3Description: https://datasheet.ciiva.com/939/irfs4127pbf-939458.pdf?src-supplier=Digi-Key; ComponentLink4URL: https://datasheet.ciiva.com/16221/irfs4127pbf-16221031.pdf?src-supplier=Future+Electronics; ComponentLink4Description: https://datasheet.ciiva.com/16221/irfs4127pbf-16221031.pdf?src-supplier=Future+Electronics; Supplier Part Number 1: IRFS4127TRLPBFCT-ND
footprint DPAK_TO263 (D2-PAK, 3-Pads, Body 7.93x8.70mm (max), IPC Medium Density)
footprint DPAK_TO263 (D2-PAK, 3-Pads, Body 7.93x8.70mm (max), IPC Medium Density)
pins: 1, 2, 3
text: D; G; S

## IsabelShunt
designator R?, comment 1
ComponentLink1Description: https://www.ozdisan.com/pasif-komponentler/direncler/smt-smd-direncler/M271UFG100KT20; ComponentLink1URL: https://www.ozdisan.com/pasif-komponentler/direncler/smt-smd-direncler/M271UFG100KT20
footprint R-2512W (resistor 2512 wave soldering)
pins: 1, 2

## IXDN614SITR
designator U?, comment IXDN614
14A 8SOIC EXP MTL NON INVERTING; Manufacturer: Ixys Clare; Manufacturer Part Number: IXDN614SITR; Rise Time: 35ns; Propagation Delay: 70ns; Max Supply Voltage: 35V; Min Supply Voltage: 4.5V; Number of Outputs: 1; Fall Time: 25ns; Supplier 1: Mouser; RoHS: Yes; Pricing 1: 1 = 4.24000, 10 = 3.79000, 50 = 3.41000, 100 = 3.10000, 1000 = 2.12000, 10000 = 1.90000 (USD); Mount: Surface Mount; Case/Package: SOIC; Number of Pins: 8; Min Operating Temperature: -40°C; Max Operating Temperature: 125°C; Max Output Current: 14A; Packaging: Tape and Reel; Package Quantity: 2000; Number of Drivers: 1; Lead Free: Lead Free; ComponentLink1URL: https://datasheet.ciiva.com/6613/ixd-614-6613145.pdf?src-supplier=Digi-Key; ComponentLink1Description: https://datasheet.ciiva.com/6613/ixd-614-6613145.pdf?src-supplier=Digi-Key; Supplier Part Number 1: 849-IXDN614SITR
footprint FAN3122 Soic8 (SOIC, 8-Leads, Body 4.95x3.95mm, Pitch 1.27mm, Thermal Pad 4.10x3.10mm, IPC Medium Density)
pins: 1, 2, 3, 4, 5, 6, 7, 8
text: VDD; IN; Out; NC; Gnd

## L78M05
designator U?, comment L78M05CDT
Manufacturer: STMicroelectronics; Manufacturer Part Number: L78M15CDT; Max Output Current: 500mA; Output Voltage: 15V; Number of Outputs: 1; Max Input Voltage: 35V; Polarity: Positive; Quiescent Current: 6mA; Output Type: Fixed; Dropout Voltage: 2V; Supplier 1: Avnet; RoHS: Yes; Mount: Surface Mount; Case/Package: DPAK; Number of Pins: 3; Min Operating Temperature: 0°C; Max Operating Temperature: 150°C; Packaging: Rail/Tube; Output Current: 500mA; Min Input Voltage: 35V; Package Quantity: 75; Length: 6.6mm; Height: 2.4mm; Width: 6.2mm; Radiation Hardening: No; Supplier Part Number 1: L78M15CDT; ComponentLink1Description: Link; ComponentLink1URL: https://ozdisan.com/integrated-circuits-ics/power-management-ics/linear-voltage-regulators/MC7805BDTRKG
footprint TO-252
pins: 1, 2, 3
text: Vi; Vo; Gnd

## L78M15CDT
designator U?
Linear Voltage Regulators 15V 0.5A Positive; Manufacturer: STMicroelectronics; Max Output Current: 500mA; Number of Outputs: 1; Max Input Voltage: 35V; Quiescent Current: 6mA; Output Type: Fixed; Dropout Voltage: 2V; Supplier 1: Avnet; Manufacturer Part Number: L78M15CDT; RoHS: Yes; Mount: Surface Mount; Case/Package: DPAK; Number of Pins: 3; Min Operating Temperature: 0°C; Max Operating Temperature: 150°C; Output Voltage: 15V; Polarity: Positive; Packaging: Rail/Tube; Output Current: 500mA; Min Input Voltage: 35V; Package Quantity: 75; Length: 6.6mm; Height: 2.4mm; Width: 6.2mm; Radiation Hardening: No; ComponentLink1URL: http://docs-usa.electrocomponents.com/techlib:/itc_doclist_US.htm?stockno=1890999&src-supplier=Allied+Electronics; ComponentLink1Description: http://docs-usa.electrocomponents.com/techlib:/itc_doclist_US.htm?stockno=1890999&src-supplier=Allied+Electronics; ComponentLink2URL: http://www.st.com/web/en/resource/technical/document/datasheet/CD00000447.pdf?src-supplier=Avnet+Europe; ComponentLink2Description: http://www.st.com/web/en/resource/technical/document/datasheet/CD00000447.pdf?src-supplier=Avnet+Europe; ComponentLink3URL: http://www.mouser.com/ds/2/389/stmicroelectronics_cd00000447-329548.pdf?src-supplier=Mouser; ComponentLink3Description: http://www.mouser.com/ds/2/389/stmicroelectronics_cd00000447-329548.pdf?src-supplier=Mouser; Supplier Part Number 1: L78M15CDT
footprint sot89
pins: 1, 2, 3, 4
text: Vi; Vo; Gnd

## L78M15CDT_1
designator U?, comment L78M15CDT
Manufacturer: STMicroelectronics; Max Output Current: 500mA; Output Voltage: 15V; Number of Outputs: 1; Max Input Voltage: 35V; Polarity: Positive; Quiescent Current: 6mA; Output Type: Fixed; Dropout Voltage: 2V; Supplier 1: Avnet; Manufacturer Part Number: L78M15CDT; RoHS: Yes; Mount: Surface Mount; Case/Package: DPAK; Number of Pins: 3; Min Operating Temperature: 0°C; Max Operating Temperature: 150°C; Packaging: Rail/Tube; Output Current: 500mA; Min Input Voltage: 35V; Package Quantity: 75; Length: 6.6mm; Height: 2.4mm; Width: 6.2mm; Radiation Hardening: No; Supplier Part Number 1: L78M15CDT; ComponentLink1Description: link; ComponentLink1URL: https://karakoyelektronik.com/regulator/ua78m15-21734
footprint TO-252
pins: 1, 2, 3
text: Vi; Vo; Gnd

## L78M15CDT_2
designator U?, comment L78M15CDT
Linear Voltage Regulators 15V 0.5A Positive; Manufacturer: STMicroelectronics; Max Output Current: 500mA; Number of Outputs: 1; Max Input Voltage: 35V; Quiescent Current: 6mA; Output Type: Fixed; Dropout Voltage: 2V; Supplier 1: Avnet; Manufacturer Part Number: L78M15CDT; RoHS: Yes; Mount: Surface Mount; Case/Package: DPAK; Number of Pins: 3; Min Operating Temperature: 0°C; Max Operating Temperature: 150°C; Output Voltage: 15V; Polarity: Positive; Packaging: Rail/Tube; Output Current: 500mA; Min Input Voltage: 35V; Package Quantity: 75; Length: 6.6mm; Height: 2.4mm; Width: 6.2mm; Radiation Hardening: No; ComponentLink1URL: http://docs-usa.electrocomponents.com/techlib:/itc_doclist_US.htm?stockno=1890999&src-supplier=Allied+Electronics; ComponentLink1Description: http://docs-usa.electrocomponents.com/techlib:/itc_doclist_US.htm?stockno=1890999&src-supplier=Allied+Electronics; ComponentLink2URL: http://www.st.com/web/en/resource/technical/document/datasheet/CD00000447.pdf?src-supplier=Avnet+Europe; ComponentLink2Description: http://www.st.com/web/en/resource/technical/document/datasheet/CD00000447.pdf?src-supplier=Avnet+Europe; ComponentLink3URL: http://www.mouser.com/ds/2/389/stmicroelectronics_cd00000447-329548.pdf?src-supplier=Mouser; ComponentLink3Description: http://www.mouser.com/ds/2/389/stmicroelectronics_cd00000447-329548.pdf?src-supplier=Mouser; Supplier Part Number 1: L78M15CDT
footprint TO-252
pins: 1, 2, 3, 4
text: Vi; Vo; Gnd

## L78M15XX
designator U?, comment L78M15CDT
Linear Voltage Regulators 15V 0.5A Positive; Manufacturer: STMicroelectronics; Max Output Current: 500mA; Number of Outputs: 1; Max Input Voltage: 35V; Quiescent Current: 6mA; Output Type: Fixed; Dropout Voltage: 2V; Supplier 1: Avnet; Manufacturer Part Number: L78M15CDT; RoHS: Yes; Mount: Surface Mount; Case/Package: DPAK; Number of Pins: 3; Min Operating Temperature: 0°C; Max Operating Temperature: 150°C; Output Voltage: 15V; Polarity: Positive; Packaging: Rail/Tube; Output Current: 500mA; Min Input Voltage: 35V; Package Quantity: 75; Length: 6.6mm; Height: 2.4mm; Width: 6.2mm; Radiation Hardening: No; ComponentLink1URL: http://docs-usa.electrocomponents.com/techlib:/itc_doclist_US.htm?stockno=1890999&src-supplier=Allied+Electronics; ComponentLink1Description: http://docs-usa.electrocomponents.com/techlib:/itc_doclist_US.htm?stockno=1890999&src-supplier=Allied+Electronics; ComponentLink2URL: http://www.st.com/web/en/resource/technical/document/datasheet/CD00000447.pdf?src-supplier=Avnet+Europe; ComponentLink2Description: http://www.st.com/web/en/resource/technical/document/datasheet/CD00000447.pdf?src-supplier=Avnet+Europe; ComponentLink3URL: http://www.mouser.com/ds/2/389/stmicroelectronics_cd00000447-329548.pdf?src-supplier=Mouser; ComponentLink3Description: http://www.mouser.com/ds/2/389/stmicroelectronics_cd00000447-329548.pdf?src-supplier=Mouser; Supplier Part Number 1: L78M15CDT
footprint TO-252
pins: 1, 2, 3, 4
text: Vi; Vo; Gnd

## L78M24CDT-TR
designator U?
IC REG LINEAR 24V 500MA DPAK; Manufacturer: STMicroelectronics; Number of Outputs: 1; Max Input Voltage: 40V; Min Input Voltage: 26V; Dropout Voltage: 2V; Polarity: Positive; Quiescent Current: 6mA; Power Supply Rejection Ratio (PSRR): 50dB; Output Type: Fixed; Supplier 1: Arrow; Manufacturer Part Number: L78M24CDT-TR; RoHS: Yes; Stock 1: 1; Pricing 1: 1 = 0,49540 (USD); Mount: Surface Mount; Case/Package: TO-252; Number of Pins: 3; Weight: 0.063493oz; Min Operating Temperature: 0°C; Max Operating Temperature: 150°C; Packaging: Tape and Reel; Output Voltage: 24V; Output Current: 500mA; Max Output Current: 500mA; Package Quantity: 1; Number of Regulators: 1; Nominal Output Voltage: 24V; Radiation Hardening: No; REACH SVHC: No SVHC; Lead Free: Lead Free; ComponentLink1URL: http://www.st.com/content/ccc/resource/technical/document/datasheet/d7/5f/dc/5c/d5/b6/48/7c/CD00000447.pdf/files/CD00000447.pdf/jcr:content/translations/en.CD00000447.pdf?src-supplier=Digi-Key; ComponentLink1Description: http://www.st.com/content/ccc/resource/technical/document/datasheet/d7/5f/dc/5c/d5/b6/48/7c/CD00000447.pdf/files/CD00000447.pdf/jcr:content/translations/en.CD00000447.pdf?src-supplier=Digi-Key; ComponentLink2URL: http://www.st.com/web/en/resource/technical/document/datasheet/CD00000447.pdf?src-supplier=Avnet; ComponentLink2Description: http://www.st.com/web/en/resource/technical/document/datasheet/CD00000447.pdf?src-supplier=Avnet; ComponentLink3URL: http://www.st.com/web/en/resource/technical/document/datasheet/CD00000447.pdf?src-supplier=Avnet+Europe; ComponentLink3Description: http://www.st.com/web/en/resource/technical/document/datasheet/CD00000447.pdf?src-supplier=Avnet+Europe; ComponentLink4URL: http://datasheet.iiic.cc/stmicroelectronics/L78M24CDT-TR.pdf?src-supplier=IIIC; ComponentLink4Description: http://datasheet.iiic.cc/stmicroelectronics/L78M24CDT-TR.pdf?src-supplier=IIIC; Supplier Part Number 1: L78M24CDT-TR
footprint TO-252
pins: 1, 2, 3, 4
text: Vi; Vo; Gnd

## Lgrid
designator *
footprint Lgrid
pins: 1, 2

## Linverter
designator L?, comment 267uH
footprint Linverter
pins: 1, 2

## LM358DR
designator U
Dual standard operational amplifier 8-SOIC 0 to 70; MP: LM358DR; MF: Texas Instruments; Availability: Good; Mouser-Purchase-URL: https://snapeda.com/shop?store=Mouser&id=231187; SnapEDA_Link: https://www.snapeda.com/parts/LM358DR/Texas%20Instruments/view-part/231187/?ref=snap; Price: None; Value: *; Texas_Instruments-Purchase-URL: https://snapeda.com/shop?store=Texas+Instruments&id=231187; Package: SOIC-8 Texas Instruments; DigiKey-Purchase-URL: https://snapeda.com/shop?store=DigiKey&id=231187; ComponentLink1Description: Link; ComponentLink1URL: https://ozdisan.com/Product/Detail/13257/LM358DR
footprint SOIC127P599X175-8N
pins: 1 1OUT (out), 2 1IN- (in), 3 1IN+ (in), 4 GND (power), 5 2IN+ (in), 6 2IN- (in), 7 2OUT (out), 8 VCC (power)